# Altium footprint library Terminal Block P5.08-2P.PcbLib: 3 footprints
Each footprint in its own frame and in the unit in brackets; x right, y up, seen from the top. Pads: shape width x height; smd on the part's side, far side on the other; paste and mask are expansions set on the pad; w line width, h text height; cw(c..) or ccw(c..) is an arc to the next point about the centre after c.
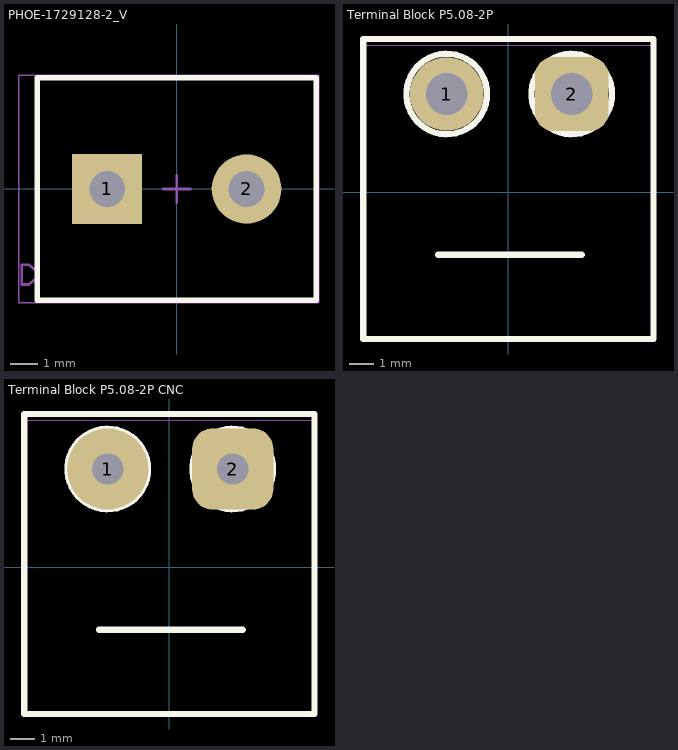
[diagram p0: the footprints below, top view; thin cyan lines are the x and y axes]

## PHOE-1729128-2_V [mm] "Receptacle, 2-Leads, Body 8.1x10.16mm, Pitch 5.08mm"
height 10.013
pads (2):
  rect 2.54x2.54 hole 1.3: 1(-2.54,0)
  round 2.54 hole 1.3: 2(2.54,0)
Top Overlay:
  lines w0.2: -5.08,-4.05 -5.08,4.05 5.08,4.05 5.08,-4.05 -5.08,-4.05
Mechanical 13:
  lines w0.1: -5.08,-3.327 -5.209,-3.327 -5.387,-3.477 -5.65,-3.477 -5.65,-2.763 ; -5.08,-2.913 -5.209,-2.913 -5.387,-2.763 -5.65,-2.763 ; -5.65,-2.763 -5.65,-2.763 ; -5.08,-4.05 -5.08,4.05 5.08,4.05 5.08,-4.05 -5.08,-4.05
Mechanical 15:
  lines w0.05: -5.75,-4.15 -5.75,4.15 5.18,4.15 5.18,-4.15 -5.75,-4.15
  lines w0.1: -0.5,0 0.5,0 ; 0,-0.5 0,0.5
3D body "1729128.stp": height 10.01, standoff -3.49, extent -5.65,-4.05 5.08,4.05

## Terminal Block P5.08-2P [mil]
pads (2):
  round 118.11 hole 66.93 paste-99999 mask+2: 1(-98,157)
  rrect50% 118.11x118.11 hole 66.93 paste-99999 mask+2: 2(102,157)
Top Overlay:
  circle w10: c102,157 r14.14
  circle w10: c-98,157 r14.14
  circle w10: c-98,157 r64.5
  circle w10: c102,157 r64.5
  lines w10: -112,-100 118,-100 ; -231.44,-235 233,-235 233,245 -231.44,245 -231.44,-235
Mechanical 15:
  lines w2: -233,-235 -233,235 233,235 233,-235 -233,-235
3D body "User Library-TB5_08-2R.STEP": height 335.15, standoff -162.89, extent -238,-236.44 240.74,236

## Terminal Block P5.08-2P CNC [mil]
pads (2):
  round 130 hole 50 paste-99999 mask+2: 1(-98,157)
  rrect50% 130x130 hole 50 paste-99999 mask+2: 2(102,157)
Top Overlay:
  circle w10: c102,157 r64.5
  circle w10: c-98,157 r64.5
  circle w10: c-98,157 r14.14
  circle w10: c102,157 r14.14
  lines w10: -112,-100 118,-100 ; -231.44,-235 -231.44,245 233,245 233,-235 -231.44,-235
Mechanical 15:
  lines w2: -233,-235 233,-235 233,235 -233,235 -233,-235
3D body "User Library-TB5_08-2R.STEP": height 335.15, standoff -162.89, extent -238,-236.44 240.74,236